# EAGLE library part CON-9P-100 (library 31813 Neutron Readout PCB)
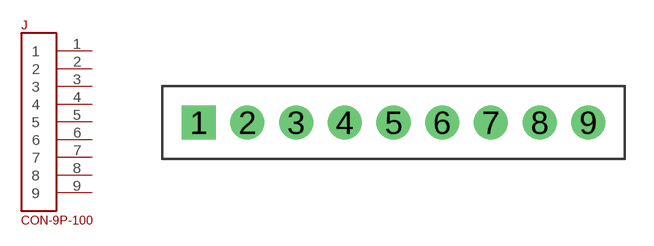
[diagram p22: symbol with the pads of 9P-100; footprint 9P-100]

Designator prefix J

## CON-9P-100  [9P-100]
1  1  pas
2  2  pas
3  3  pas
4  4  pas
5  5  pas
6  6  pas
7  7  pas
8  8  pas
9  9  pas

## Footprint 9P-100 (pad centres in mm)
drill 1.016 pad 1.778 square: 1 -10.16,0
drill 1.016 pad 1.778: 2 -7.62,0; 3 -5.08,0; 4 -2.54,0; 5 0,0; 6 2.54,0; 7 5.08,0; 8 7.62,0; 9 10.16,0